# EAGLE library part EDGEPADS (library EdgePads)
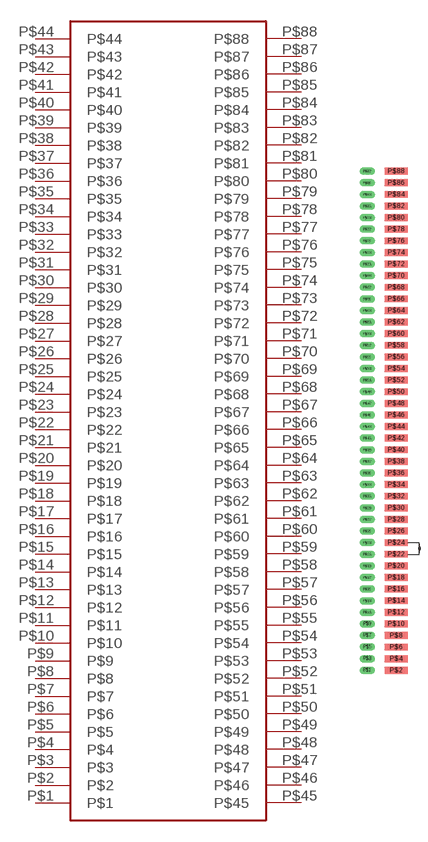
[diagram p0: symbol with the pads of EDGEPADS; footprint EDGEPADS]

Designator prefix -

## EDGEPADS  [EDGEPADS]
P$1  P$1
P$2  P$2
P$3  P$3
P$4  P$4
P$5  P$5
P$6  P$6
P$7  P$7
P$8  P$8
P$9  P$9
P$10  P$10
P$11  P$11
P$12  P$12
P$13  P$13
P$14  P$14
P$15  P$15
P$16  P$16
P$17  P$17
P$18  P$18
P$19  P$19
P$20  P$20
P$21  P$21
P$22  P$22
P$23  P$23
P$24  P$24
P$25  P$25
P$26  P$26
P$27  P$27
P$28  P$28
P$29  P$29
P$30  P$30
P$31  P$31
P$32  P$32
P$33  P$33
P$34  P$34
P$35  P$35
P$36  P$36
P$37  P$37
P$38  P$38
P$39  P$39
P$40  P$40
P$41  P$41
P$42  P$42
P$43  P$43
P$44  P$44
P$45  P$45
P$46  P$46
P$47  P$47
P$48  P$48
P$49  P$49
P$50  P$50
P$51  P$51
P$52  P$52
P$53  P$53
P$54  P$54
P$55  P$55
P$56  P$56
P$57  P$57
P$58  P$58
P$59  P$59
P$60  P$60
P$61  P$61
P$62  P$62
P$63  P$63
P$64  P$64
P$65  P$65
P$66  P$66
P$67  P$67
P$68  P$68
P$69  P$69
P$70  P$70
P$71  P$71
P$72  P$72
P$73  P$73
P$74  P$74
P$75  P$75
P$76  P$76
P$77  P$77
P$78  P$78
P$79  P$79
P$80  P$80
P$81  P$81
P$82  P$82
P$83  P$83
P$84  P$84
P$85  P$85
P$86  P$86
P$87  P$87
P$88  P$88

## Footprint EDGEPADS (pad centres in mm)
drill 0.8 pad 1.676 long: P$1 3.81,0; P$3 3.81,2.54; P$5 3.81,5.08; P$7 3.81,7.62; P$9 3.81,10.16; P$11 3.81,12.7; P$13 3.81,15.24; P$15 3.81,17.78; P$17 3.81,20.32; P$19 3.81,22.86; P$21 3.81,25.4; P$23 3.81,27.94; P$25 3.81,30.48; P$27 3.81,33.02; P$29 3.81,35.56; P$31 3.81,38.1; P$33 3.81,40.64; P$35 3.81,43.18; P$37 3.81,45.72; P$39 3.81,48.26; P$41 3.81,50.8; P$43 3.81,53.34; P$45 3.81,55.88; P$47 3.81,58.42; P$49 3.81,60.96; P$51 3.81,63.5; P$53 3.81,66.04; P$55 3.81,68.58; P$57 3.81,71.12; P$59 3.81,73.66; P$61 3.81,76.2; P$63 3.81,78.74; P$65 3.81,81.28; P$67 3.81,83.82; P$69 3.81,86.36; P$71 3.81,88.9; P$73 3.81,91.44; P$75 3.81,93.98; P$77 3.81,96.52; P$79 3.81,99.06; P$81 3.81,101.6; P$83 3.81,104.14; P$85 3.81,106.68; P$87 3.81,109.22
smd 5 x 1.5: P$2 10.16,0; P$4 10.16,2.54; P$6 10.16,5.08; P$8 10.16,7.62; P$10 10.16,10.16; P$12 10.16,12.7; P$14 10.16,15.24; P$16 10.16,17.78; P$18 10.16,20.32; P$20 10.16,22.86; P$22 10.16,25.4; P$24 10.16,27.94; P$26 10.16,30.48; P$28 10.16,33.02; P$30 10.16,35.56; P$32 10.16,38.1; P$34 10.16,40.64; P$36 10.16,43.18; P$38 10.16,45.72; P$40 10.16,48.26; P$42 10.16,50.8; P$44 10.16,53.34; P$46 10.16,55.88; P$48 10.16,58.42; P$50 10.16,60.96; P$52 10.16,63.5; P$54 10.16,66.04; P$56 10.16,68.58; P$58 10.16,71.12; P$60 10.16,73.66; P$62 10.16,76.2; P$64 10.16,78.74; P$66 10.16,81.28; P$68 10.16,83.82; P$70 10.16,86.36; P$72 10.16,88.9; P$74 10.16,91.44; P$76 10.16,93.98; P$78 10.16,96.52; P$80 10.16,99.06; P$82 10.16,101.6; P$84 10.16,104.14; P$86 10.16,106.68; P$88 10.16,109.22